# Altium schematic symbol library CON_Omega2_Module.SchLib: 1 symbol
Pins are listed as number, name and electrical type; pins without a type are passive.

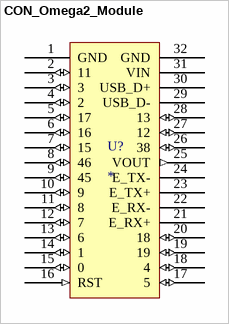
[diagram p0: symbol CON_Omega2_Module]

## CON_Omega2_Module
designator U?  (no BOM)
pins: 1 GND, 2 11 (io), 3 (io), 4 2 (io), 5 17 (io), 6 16 (io), 7 15 (io), 8 46 (io), 9 45 (io), 10 9 (io), 11 8 (io), 12 7 (io), 13 6 (io), 14 1 (io), 15 0 (io), 16 RST (in), 17 5 (io), 18 4 (io), 19 (io), 20 18 (io), 21 E_RX+, 22 E_RX-, 23 E_TX+, 24 E_TX-, 25 VOUT (out), 26 38 (io), 27 12 (io), 28 13 (io), 29 USB_D-, 30 USB_D+, 31 VIN (power), 32 GND